# EAGLE library part IC_ACCEL_MXR9150MZ (library homemade-hardware)
MXR9150MZ <https://www.digikey.com/product-detail/en/memsic-inc/MXR9150MZ/1267-1014-1-ND/3719459>: Analog 3-Axis Accel., 2.7-3.6V
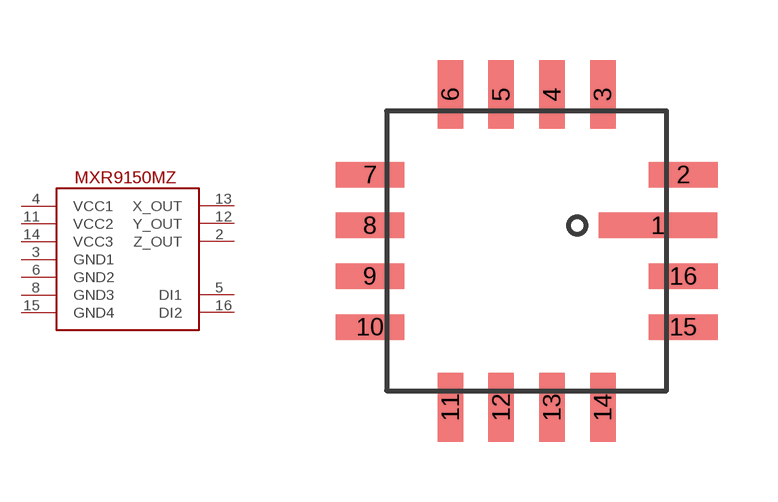
[diagram p10: symbol with the pads of MXR9150MZ; footprint MXR9150MZ]

Designator prefix -

## IC_ACCEL_MXR9150MZ  [MXR9150MZ]
2  Z_OUT
3  GND1
4  VCC1
5  DI1
6  GND2
8  GND3
11  VCC2
12  Y_OUT
13  X_OUT
14  VCC3
15  GND4
16  DI2

## Footprint MXR9150MZ (pad centres in mm)
smd 2.963 x 0.64: 1 3.281,0.635
smd 1.722 x 0.64: 2 3.916,1.905; 7 -3.916,1.905; 8 -3.916,0.635; 9 -3.916,-0.635; 10 -3.916,-1.905; 15 3.916,-1.905; 16 3.916,-0.635
smd 0.64 x 1.722: 3 1.905,3.916; 4 0.635,3.916; 5 -0.635,3.916; 6 -1.905,3.916; 11 -1.905,-3.916; 12 -0.635,-3.916; 13 0.635,-3.916; 14 1.905,-3.916